# Altium integrated library Linear Technology Power Management Hot Swap Controllers.IntLib: 992 symbols (part 45 of 93)
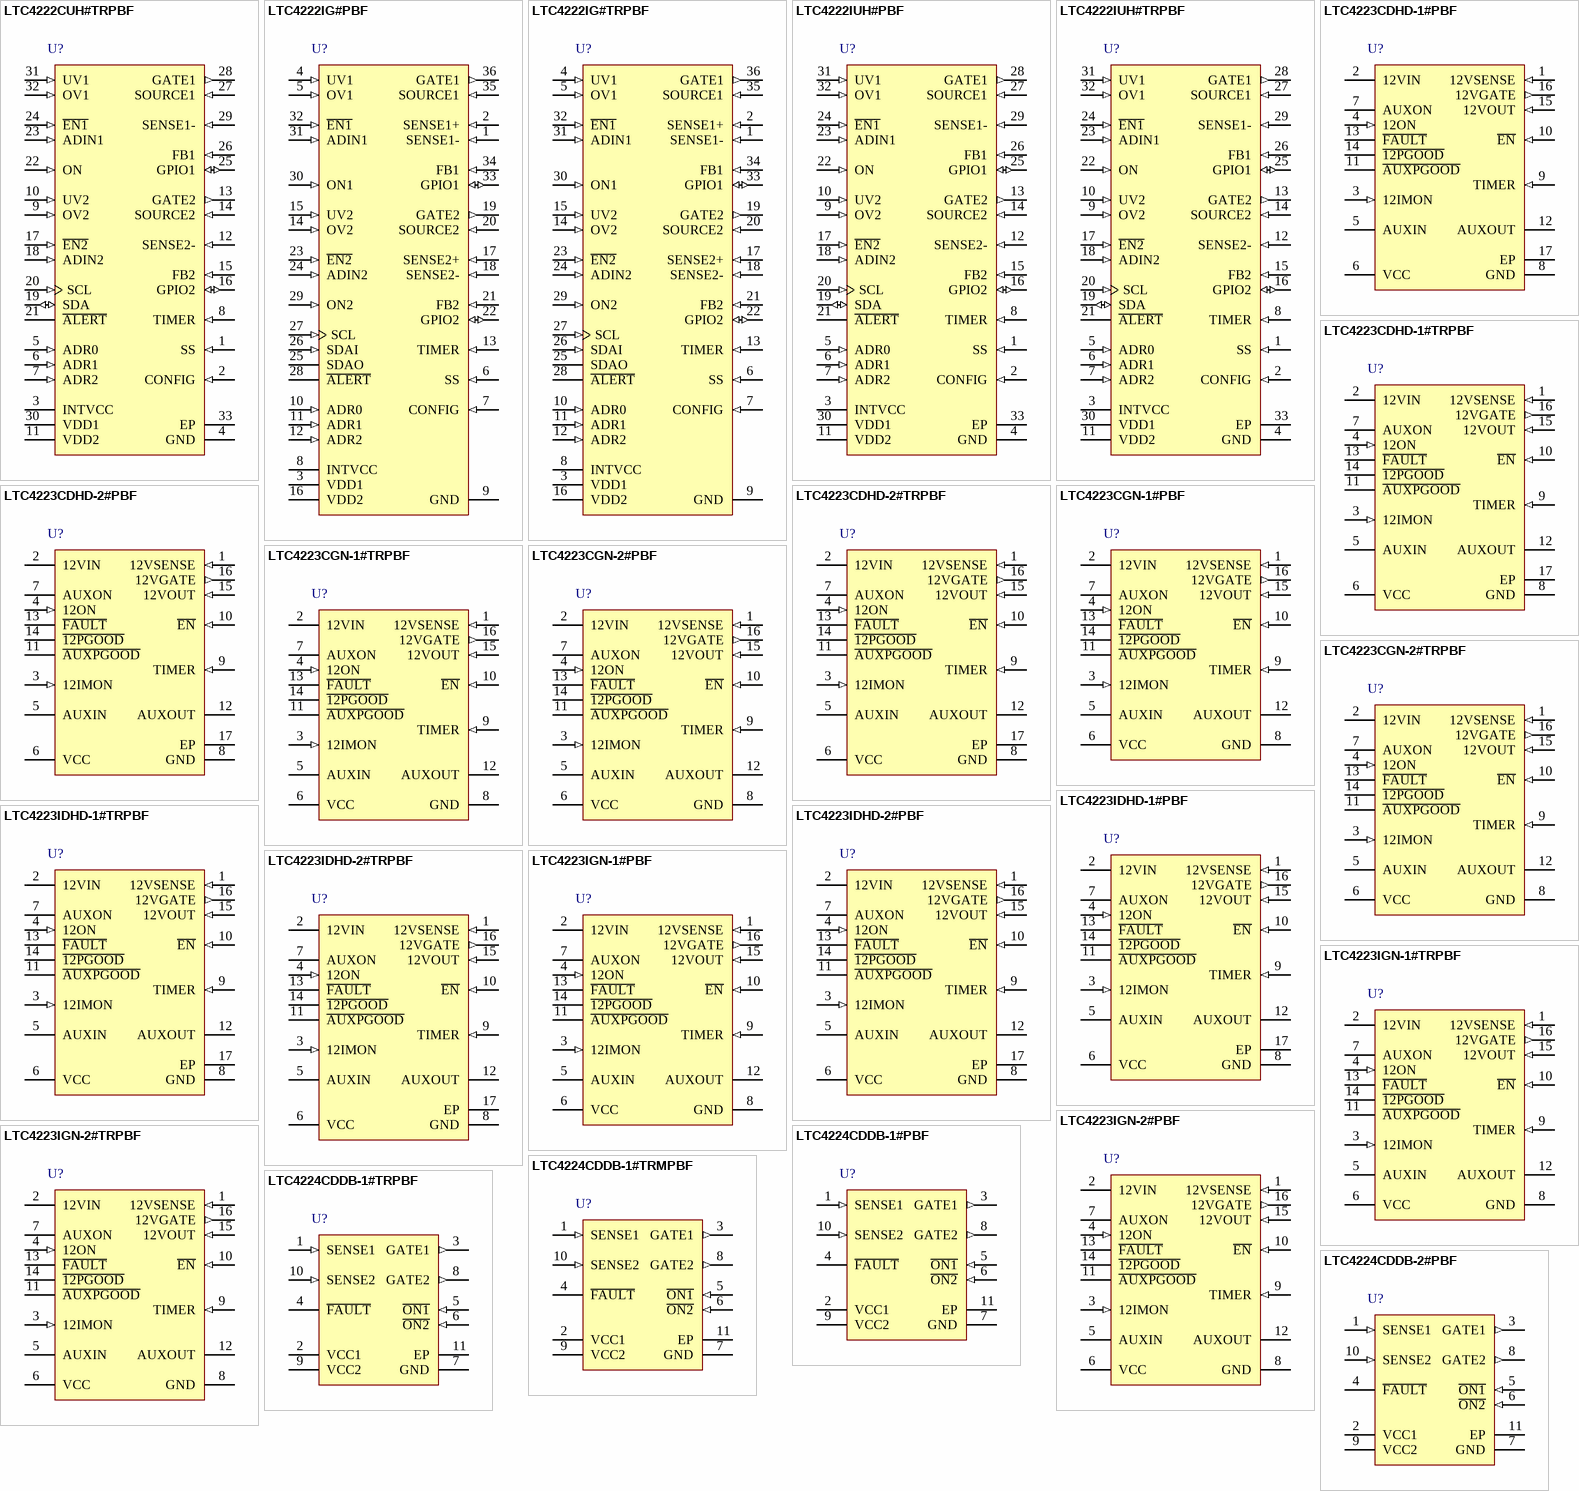
[diagram p81: symbols LTC4222CUH#TRPBF to LTC4224CDDB-2#PBF]

## LTC4222IUH#PBF
designator U?
Dual Hot Swap Controller with I2C Compatible Monitoring, 2.9 to 29 V Vin, 32-pin QFN (UH-32), -40 to 85 degC, Pb-Free; Manufacturer: Linear Technology; PartNumber: LTC4222IUH#PBF; Active Limiting: yes; ADC: 10-bit; Circuit Breaker Accuracy(%): 5; Circuit Breaker Threshold: 50 mV; Circuit Breakers(#): 2; Extended Temp: C, I; DatasheetVersion: Rev. B; PackageVersion: Rev. D, 06/2010; PackageReference: UH-32; PackageDescription: 32-Pin Plastic QFN, Body 5 x 5 mm, Pitch 0.5 mm; Supplier 1: Digi-Key; Supplier Part Number 1: LTC4222IUH#PBF-ND; Supplier 2: Newark; Supplier Part Number 2: 13P4663; Fast Comparator: yes; Fault: yes; Foldback: yes; Power Good: yes; Reset: yes; RoHS: TRUE; Vin Range: 2.9 to 29 V; Mounting Technology: Surface Mount; Code_JEDEC: MO-220; ComponentLink1Description: Manufacturer URL; ComponentLink1URL: http://www.linear.com/; ComponentLink2Description: Datasheet; ComponentLink2URL: http://cds.linear.com/docs/en/datasheet/4222fb.pdf; ComponentLink3Description: Package Specification; ComponentLink3URL: http://cds.linear.com/docs/en/packaging/QFN_32_05-08-1693.pdf
footprint LT-UH-32_N (QFN, 32-Leads, Body 5.1x5.1mm, Pitch 0.5mm, Thermal Pad 3.45X3.45mm, IPC Medium Density)
footprint LT-UH-32_L (QFN, 32-Leads, Body 5.1x5.1mm, Pitch 0.5mm, Thermal Pad 3.45X3.45mm, IPC High Density)
footprint LT-UH-32_M (QFN, 32-Leads, Body 5.1x5.1mm, Pitch 0.5mm, Thermal Pad 3.45X3.45mm, IPC Low Density)
pins: 1 SS (in) "SS: Soft-Start Input. Sets the inrush current slew rate at start-up. Connect a 68nF capacitor to provide 5mV/ms as the slew rate for the sense voltage in start-up. This corresponds to 1A/ms with a 5mohm sense resistor. Note (See Datasheet)", 2 CONFIG (in) "CONFIG: Configuration Input. Configures the part to control the two channels together or independently. When CONFIG is tied to GND both channels start up at the same time. A fault, E\N\ or ON turn-off command on either (See Datasheet)", 3 INTVCC (power) "INTVCC: Low Voltage Supply Decoupling Output. Connect a 0.1uF capacitor from this pin to ground.", 4 GND (power) "GND: Device Ground.", 5 ADR0 (in) "ADR0, ADR1, ADR2: Serial Bus Address Inputs. Tying these pins to ground, open, or INTVCC configures one of 27 possible addresses. See Table 1 in Applications Information.", 6 ADR1 (in) "ADR0, ADR1, ADR2: Serial Bus Address Inputs. Tying these pins to ground, open, or INTVCC configures one of 27 possible addresses. See Table 1 in Applications Information.", 7 ADR2 (in) "ADR0, ADR1, ADR2: Serial Bus Address Inputs. Tying these pins to ground, open, or INTVCC configures one of 27 possible addresses. See Table 1 in Applications Information.", 8 TIMER (in) "TIMER: Start-Up Timer Input. Connect a capacitor between this pin and ground to set a 12.3ms/uF duration for start-up, after which an overcurrent fault is logged if the inrush is still current limited. The duration of the (See Datasheet)", 9 OV2 (in) "OV1, OV2: Overvoltage Comparator Input. Connect this pin to an external resistive divider from VDD. If the voltage at this pin rises above 1.235V, an overvoltage fault is detected and the GATE turns off. Tie to GND if unused.", 10 UV2 (in) "UV1, UV2: Undervoltage Comparator Input. Connect this pin to an external resistive divider from VDD. If the voltage at this pin falls below 1.145V, an undervoltage fault is detected and the GATE turns off. Pulling this pin (See Datasheet)", 11 VDD2 (power) "VDD1, VDD2: Supply Voltage Input and Positive Current Sense Input. This pin has an undervoltage lockout threshold of 2.43V. In the QFN package this pin is also the positive current sense input.", 12 SENSE2- (in) "SENSE1-, SENSE2-: Negative Current Sense Input. Connect this pin to the output of the current sense resistor. The current limit circuit controls the corresponding GATE pin voltage to limit the sense voltage between the (See Datasheet)", 13 GATE2 (out) "GATE1, GATE2: Gate Drive for External N-Channel MOSFET. An internal 12uA current source charges the gate of the MOSFET. No compensation capacitor is required on the GATE pin, but a resistor and capacitor network from this (See Datasheet)", 14 SOURCE2 (in) "SOURCE1, SOURCE2: N-Channel MOSFET Source and ADC Input. Connect this pin to the source of the external N-channel MOSFET switch for gate drive return. This pin also serves as the ADC input to monitor output voltage. The pin (See Datasheet)", 15 FB2 (in) "FB1, FB2: Foldback Current Limit and Power-Good Input. A resistive divider from the output is tied to this pin. When the voltage at this pin drops below 1.235V, power is not considered good. The power bad condition may (See Datasheet)", 16 GPIO2 (io) "GPIO1, GPIO2: General Purpose Input/Output. Open-drain logic output or logic input. Defaults to an output set to pull low to indicate power is not good. Configure according to Table 3.", 17 ~{EN2} (in) "E\N\1\, E\N\2\: Enable Input. Ground this pin to indicate a board is present and enable the N-channel MOSFET to turn-on. When this pin is high, the MOSFET is not allowed to turn on. An internal 10uA current source pulls up (See Datasheet)", 18 ADIN2 (in) "ADIN: ADC Input. A voltage between 0 and 1.28V applied to this pin is measured by the on-board ADC. Tie to ground if unused.", 19 SDA (io) "SDA: (QFN Package) Serial Bus Data Input/Output Line. Formed by internally tying the SDAO and SDAI lines together. An external pull-up resistor or current source is required.", 20 SCL (in) "SCL: Serial Bus Clock Input. Data at the SDA pin is shifted in or out on rising edges of SCL. This is a high impedance pin that is generally driven by an open-collector output from a master controller. An external pull-up (See Datasheet)", 21 ~{ALERT} (oc) "A\L\E\R\T\: Fault Alert Output. Open-drain logic output that is pulled to ground when a fault occurs to alert the host controller. A fault alert is enabled by setting the corresponding bit in the A\L\E\R\T\ register as shown (See Datasheet)", 22 ON (in) "ON: (QFN Package) On Control Input. Formed by internally tying the ON1 and ON2 lines together.", 23 ADIN1 (in) "ADIN: ADC Input. A voltage between 0 and 1.28V applied to this pin is measured by the on-board ADC. Tie to ground if unused.", 24 ~{EN1} (in) "E\N\1\, E\N\2\: Enable Input. Ground this pin to indicate a board is present and enable the N-channel MOSFET to turn-on. When this pin is high, the MOSFET is not allowed to turn on. An internal 10uA current source pulls up (See Datasheet)", 25 GPIO1 (io) "GPIO1, GPIO2: General Purpose Input/Output. Open-drain logic output or logic input. Defaults to an output set to pull low to indicate power is not good. Configure according to Table 3.", 26 FB1 (in) "FB1, FB2: Foldback Current Limit and Power-Good Input. A resistive divider from the output is tied to this pin. When the voltage at this pin drops below 1.235V, power is not considered good. The power bad condition may (See Datasheet)", 27 SOURCE1 (in) "SOURCE1, SOURCE2: N-Channel MOSFET Source and ADC Input. Connect this pin to the source of the external N-channel MOSFET switch for gate drive return. This pin also serves as the ADC input to monitor output voltage. The pin (See Datasheet)", 28 GATE1 (out) "GATE1, GATE2: Gate Drive for External N-Channel MOSFET. An internal 12uA current source charges the gate of the MOSFET. No compensation capacitor is required on the GATE pin, but a resistor and capacitor network from this (See Datasheet)", 29 SENSE1- (in) "SENSE1-, SENSE2-: Negative Current Sense Input. Connect this pin to the output of the current sense resistor. The current limit circuit controls the corresponding GATE pin voltage to limit the sense voltage between the (See Datasheet)", 30 VDD1 (power) "VDD1, VDD2: Supply Voltage Input and Positive Current Sense Input. This pin has an undervoltage lockout threshold of 2.43V. In the QFN package this pin is also the positive current sense input.", 31 UV1 (in) "UV1, UV2: Undervoltage Comparator Input. Connect this pin to an external resistive divider from VDD. If the voltage at this pin falls below 1.145V, an undervoltage fault is detected and the GATE turns off. Pulling this pin (See Datasheet)", 32 OV1 (in) "OV1, OV2: Overvoltage Comparator Input. Connect this pin to an external resistive divider from VDD. If the voltage at this pin rises above 1.235V, an overvoltage fault is detected and the GATE turns off. Tie to GND if unused.", 33 EP (power) "EXPOSED PAD: (Pin 33, QFN Package) Exposed Pad. May be left open or connected to device ground."

## LTC4222IUH#TRPBF
designator U?
Dual Hot Swap Controller with I2C Compatible Monitoring, 2.9 to 29 V Vin, 32-pin QFN (UH-32), -40 to 85 degC, Pb-Free, Tape and Reel; Manufacturer: Linear Technology; PartNumber: LTC4222IUH#TRPBF; Active Limiting: yes; ADC: 10-bit; Circuit Breaker Accuracy(%): 5; Circuit Breaker Threshold: 50 mV; Circuit Breakers(#): 2; Extended Temp: C, I; DatasheetVersion: Rev. B; PackageVersion: Rev. D, 06/2010; PackageReference: UH-32; PackageDescription: 32-Pin Plastic QFN, Body 5 x 5 mm, Pitch 0.5 mm; Supplier 1: Digi-Key; Supplier Part Number 1: LTC4222IUH#TRPBF-ND; Fast Comparator: yes; Fault: yes; Foldback: yes; Packing: Tape and Reel; Power Good: yes; Reset: yes; RoHS: TRUE; Vin Range: 2.9 to 29 V; Mounting Technology: Surface Mount; Code_JEDEC: MO-220; ComponentLink1Description: Manufacturer URL; ComponentLink1URL: http://www.linear.com/; ComponentLink2Description: Datasheet; ComponentLink2URL: http://cds.linear.com/docs/en/datasheet/4222fb.pdf; ComponentLink3Description: Package Specification; ComponentLink3URL: http://cds.linear.com/docs/en/packaging/QFN_32_05-08-1693.pdf
footprint LT-UH-32_N (QFN, 32-Leads, Body 5.1x5.1mm, Pitch 0.5mm, Thermal Pad 3.45X3.45mm, IPC Medium Density)
footprint LT-UH-32_L (QFN, 32-Leads, Body 5.1x5.1mm, Pitch 0.5mm, Thermal Pad 3.45X3.45mm, IPC High Density)
footprint LT-UH-32_M (QFN, 32-Leads, Body 5.1x5.1mm, Pitch 0.5mm, Thermal Pad 3.45X3.45mm, IPC Low Density)
pins: 1 SS (in) "SS: Soft-Start Input. Sets the inrush current slew rate at start-up. Connect a 68nF capacitor to provide 5mV/ms as the slew rate for the sense voltage in start-up. This corresponds to 1A/ms with a 5mohm sense resistor. Note (See Datasheet)", 2 CONFIG (in) "CONFIG: Configuration Input. Configures the part to control the two channels together or independently. When CONFIG is tied to GND both channels start up at the same time. A fault, E\N\ or ON turn-off command on either (See Datasheet)", 3 INTVCC (power) "INTVCC: Low Voltage Supply Decoupling Output. Connect a 0.1uF capacitor from this pin to ground.", 4 GND (power) "GND: Device Ground.", 5 ADR0 (in) "ADR0, ADR1, ADR2: Serial Bus Address Inputs. Tying these pins to ground, open, or INTVCC configures one of 27 possible addresses. See Table 1 in Applications Information.", 6 ADR1 (in) "ADR0, ADR1, ADR2: Serial Bus Address Inputs. Tying these pins to ground, open, or INTVCC configures one of 27 possible addresses. See Table 1 in Applications Information.", 7 ADR2 (in) "ADR0, ADR1, ADR2: Serial Bus Address Inputs. Tying these pins to ground, open, or INTVCC configures one of 27 possible addresses. See Table 1 in Applications Information.", 8 TIMER (in) "TIMER: Start-Up Timer Input. Connect a capacitor between this pin and ground to set a 12.3ms/uF duration for start-up, after which an overcurrent fault is logged if the inrush is still current limited. The duration of the (See Datasheet)", 9 OV2 (in) "OV1, OV2: Overvoltage Comparator Input. Connect this pin to an external resistive divider from VDD. If the voltage at this pin rises above 1.235V, an overvoltage fault is detected and the GATE turns off. Tie to GND if unused.", 10 UV2 (in) "UV1, UV2: Undervoltage Comparator Input. Connect this pin to an external resistive divider from VDD. If the voltage at this pin falls below 1.145V, an undervoltage fault is detected and the GATE turns off. Pulling this pin (See Datasheet)", 11 VDD2 (power) "VDD1, VDD2: Supply Voltage Input and Positive Current Sense Input. This pin has an undervoltage lockout threshold of 2.43V. In the QFN package this pin is also the positive current sense input.", 12 SENSE2- (in) "SENSE1-, SENSE2-: Negative Current Sense Input. Connect this pin to the output of the current sense resistor. The current limit circuit controls the corresponding GATE pin voltage to limit the sense voltage between the (See Datasheet)", 13 GATE2 (out) "GATE1, GATE2: Gate Drive for External N-Channel MOSFET. An internal 12uA current source charges the gate of the MOSFET. No compensation capacitor is required on the GATE pin, but a resistor and capacitor network from this (See Datasheet)", 14 SOURCE2 (in) "SOURCE1, SOURCE2: N-Channel MOSFET Source and ADC Input. Connect this pin to the source of the external N-channel MOSFET switch for gate drive return. This pin also serves as the ADC input to monitor output voltage. The pin (See Datasheet)", 15 FB2 (in) "FB1, FB2: Foldback Current Limit and Power-Good Input. A resistive divider from the output is tied to this pin. When the voltage at this pin drops below 1.235V, power is not considered good. The power bad condition may (See Datasheet)", 16 GPIO2 (io) "GPIO1, GPIO2: General Purpose Input/Output. Open-drain logic output or logic input. Defaults to an output set to pull low to indicate power is not good. Configure according to Table 3.", 17 ~{EN2} (in) "E\N\1\, E\N\2\: Enable Input. Ground this pin to indicate a board is present and enable the N-channel MOSFET to turn-on. When this pin is high, the MOSFET is not allowed to turn on. An internal 10uA current source pulls up (See Datasheet)", 18 ADIN2 (in) "ADIN: ADC Input. A voltage between 0 and 1.28V applied to this pin is measured by the on-board ADC. Tie to ground if unused.", 19 SDA (io) "SDA: (QFN Package) Serial Bus Data Input/Output Line. Formed by internally tying the SDAO and SDAI lines together. An external pull-up resistor or current source is required.", 20 SCL (in) "SCL: Serial Bus Clock Input. Data at the SDA pin is shifted in or out on rising edges of SCL. This is a high impedance pin that is generally driven by an open-collector output from a master controller. An external pull-up (See Datasheet)", 21 ~{ALERT} (oc) "A\L\E\R\T\: Fault Alert Output. Open-drain logic output that is pulled to ground when a fault occurs to alert the host controller. A fault alert is enabled by setting the corresponding bit in the A\L\E\R\T\ register as shown (See Datasheet)", 22 ON (in) "ON: (QFN Package) On Control Input. Formed by internally tying the ON1 and ON2 lines together.", 23 ADIN1 (in) "ADIN: ADC Input. A voltage between 0 and 1.28V applied to this pin is measured by the on-board ADC. Tie to ground if unused.", 24 ~{EN1} (in) "E\N\1\, E\N\2\: Enable Input. Ground this pin to indicate a board is present and enable the N-channel MOSFET to turn-on. When this pin is high, the MOSFET is not allowed to turn on. An internal 10uA current source pulls up (See Datasheet)", 25 GPIO1 (io) "GPIO1, GPIO2: General Purpose Input/Output. Open-drain logic output or logic input. Defaults to an output set to pull low to indicate power is not good. Configure according to Table 3.", 26 FB1 (in) "FB1, FB2: Foldback Current Limit and Power-Good Input. A resistive divider from the output is tied to this pin. When the voltage at this pin drops below 1.235V, power is not considered good. The power bad condition may (See Datasheet)", 27 SOURCE1 (in) "SOURCE1, SOURCE2: N-Channel MOSFET Source and ADC Input. Connect this pin to the source of the external N-channel MOSFET switch for gate drive return. This pin also serves as the ADC input to monitor output voltage. The pin (See Datasheet)", 28 GATE1 (out) "GATE1, GATE2: Gate Drive for External N-Channel MOSFET. An internal 12uA current source charges the gate of the MOSFET. No compensation capacitor is required on the GATE pin, but a resistor and capacitor network from this (See Datasheet)", 29 SENSE1- (in) "SENSE1-, SENSE2-: Negative Current Sense Input. Connect this pin to the output of the current sense resistor. The current limit circuit controls the corresponding GATE pin voltage to limit the sense voltage between the (See Datasheet)", 30 VDD1 (power) "VDD1, VDD2: Supply Voltage Input and Positive Current Sense Input. This pin has an undervoltage lockout threshold of 2.43V. In the QFN package this pin is also the positive current sense input.", 31 UV1 (in) "UV1, UV2: Undervoltage Comparator Input. Connect this pin to an external resistive divider from VDD. If the voltage at this pin falls below 1.145V, an undervoltage fault is detected and the GATE turns off. Pulling this pin (See Datasheet)", 32 OV1 (in) "OV1, OV2: Overvoltage Comparator Input. Connect this pin to an external resistive divider from VDD. If the voltage at this pin rises above 1.235V, an overvoltage fault is detected and the GATE turns off. Tie to GND if unused.", 33 EP (power) "EXPOSED PAD: (Pin 33, QFN Package) Exposed Pad. May be left open or connected to device ground."

## LTC4223CDHD-1#PBF
designator U?
Dual Supply Hot Swap Controller for Advanced Mezzanine Card, 2.7 to 6 V Vin, 16-pin SON (DHD-16), 0 to 70 degC, Pb-Free; Manufacturer: Linear Technology; PartNumber: LTC4223CDHD-1#PBF; Active Limiting: yes; Circuit Breaker Accuracy(%): 5; Circuit Breaker Threshold: 50 mV (12), 240 mA (3.3 aux); Circuit Breakers(#): 2; Extended Temp: C, I; Foldback: no; PackageVersion: Jun-10; PackageReference: DHD-16; PackageDescription: 16-Pin Plastic DFN, Body 5 x 4 mm, Pitch 0.5 mm; Supplier 1: Digi-Key; Supplier Part Number 1: LTC4223CDHD-1#PBF-ND; Supplier 2: Farnell; Supplier Part Number 2: 1432767; Supplier 3: Newark; Supplier Part Number 3: 56M8863; Fast Comparator: yes; Fault: yes; Power Good: yes; RoHS: TRUE; Vin Range: 2.7 to 6 V; Mounting Technology: Surface Mount; Code_JEDEC: MO-229; ComponentLink1Description: Manufacturer URL; ComponentLink1URL: http://www.linear.com/; ComponentLink2Description: Datasheet; ComponentLink2URL: http://cds.linear.com/docs/en/datasheet/422312f.pdf; ComponentLink3Description: Package Specification; ComponentLink3URL: http://cds.linear.com/docs/en/packaging/DFN_16_05-08-1707.pdf
footprint LT-DHD-16_V (SON, 16-Leads, Body 5x4mm, Pitch 0.5mm, Thermal Pad 4.34x2.44mm)
pins: 1 12VSENSE (in) "12V Current Sense Input. Connect this pin to the output of the current sense resistor. The electronic circuit breaker trips if the voltage across the sense resistor exceeds 50mV for more than a fault filter delay.", 2 12VIN (power) "12V Supply Input. Undervoltage lockout disables the 12V supply until the input at 12VIN exceeds 9.7V.", 3 12IMON (in) "12V Current Sense Monitoring Output. This pin monitors the sense voltage between 12VIN and 12VSENSE. The gain ratio between this pin's voltage and the sense voltage is 33.", 4 12ON (in) "12V Supply On Control Digital Input. A rising edge turns on the external N-channel MOSFET if E\N\ is pulled low and a falling edge turns it off. A high-to-low transition on this pin will clear the 12V supply faults.", 5 AUXIN (power) "Auxiliary Supply Input. An internal 0.3 ohm switch is connected between AUXIN and AUXOUT pins. Undervoltage lockout holds the switch off until the input at AUXIN exceeds 2.5V.", 6 VCC (power) "Bias Supply Input. This pin provides power to the device's internal circuitry and operates from 2.7V to 6V. Undervoltage lockout circuit disables the device until the input at VCC exceeds 2.45V. Bypass with 330nF.", 7 AUXON (power) "Auxiliary Supply On Control Digital Input. A rising edge turns on the internal switch if E\N\ is pulled low and a falling edge turns it off. A high-to-low transition on both this pin and 12ON pin will clear the auxiliary (See Datasheet)", 8 GND (power) "Device Ground.", 9 TIMER (in) "Timer Capacitor Terminal. Connect a capacitor between this pin and ground to set a 741ms/uF duration for initial timing cycle, 123ms/uF for AUX current limit during power-up and 6ms/uF duration for 12V current limit before (See Datasheet)", 10 ~{EN} (in) "Enable Input Intended for Card Presence Detect. Ground this pin to enable the external N-channel MOSFET and internal switch to turn on. If this pin is pulled high, the switches are not allowed to turn on. An internal 100k (See Datasheet)", 11 ~{AUXPGOOD} (oc) "Auxiliary Supply Power Status Output. Open drain output that is normally pulled high by an internal 10uA current source or an external pull-up resistor to VCC. It pulls low when the AUXOUT pin voltage exceeds the power-good (See Datasheet)", 12 AUXOUT (power) "Auxiliary Supply Output. This pin is the output from the internal switch connected between AUXIN and AUXOUT pins. It signals A\U\X\P\G\O\O\D\ low when it exceeds 2.901V. A 750ohm active pull-down discharges AUXOUT to ground (See Datasheet)", 13 ~{FAULT} (oc) "Auxiliary and 12V Supply Fault Status Output. Open drain output that is normally pulled high by an internal 10uA current source or an external pull-up resistor to VCC. It pulls low when the circuit breaker is tripped due to (See Datasheet)", 14 ~{12PGOOD} (oc) "12V Supply Power Status Output. Open drain output that is normally pulled high by an internal 10uA current source or an external pull-up resistor to VCC. It pulls low when the 12VOUT pin voltage exceeds the power-good (See Datasheet)", 15 12VOUT (in) "12V Gate Drive Return and Power-Good Input. Connect this pin to the source of the external Nchannel MOSFET for gate drive return. This pin signals 1\2\P\G\O\O\D\ low when it exceeds 10.36V. When the external MOSFET is turned (See Datasheet)", 16 12VGATE (out) "Gate Drive for 12V Supply External NChannel MOSFET. An internal 10 uA current source charges the gate of the external N-channel MOSFET. An internal clamp limits the gate voltage to 6.2V above 12VOUT. A resistor and capacitor (See Datasheet)", 17 EP (power) "Exposed pad may be left open or connected to device ground."

## LTC4223CDHD-1#TRPBF
designator U?
Dual Supply Hot Swap Controller for Advanced Mezzanine Card, 2.7 to 6 V Vin, 16-pin SON (DHD-16), 0 to 70 degC, Pb-Free, Tape and Reel; Manufacturer: Linear Technology; PartNumber: LTC4223CDHD-1#TRPBF; Active Limiting: yes; Circuit Breaker Accuracy(%): 5; Circuit Breaker Threshold: 50 mV (12), 240 mA (3.3 aux); Circuit Breakers(#): 2; Extended Temp: C, I; Foldback: no; PackageVersion: Jun-10; PackageReference: DHD-16; PackageDescription: 16-Pin Plastic DFN, Body 5 x 4 mm, Pitch 0.5 mm; Supplier 1: Digi-Key; Supplier Part Number 1: LTC4223CDHD-1#TRPBF-ND; Supplier 2: Newark; Supplier Part Number 2: 56M8864; Fast Comparator: yes; Fault: yes; Packing: Tape and Reel; Power Good: yes; RoHS: TRUE; Vin Range: 2.7 to 6 V; Mounting Technology: Surface Mount; Code_JEDEC: MO-229; ComponentLink1Description: Manufacturer URL; ComponentLink1URL: http://www.linear.com/; ComponentLink2Description: Datasheet; ComponentLink2URL: http://cds.linear.com/docs/en/datasheet/422312f.pdf; ComponentLink3Description: Package Specification; ComponentLink3URL: http://cds.linear.com/docs/en/packaging/DFN_16_05-08-1707.pdf
footprint LT-DHD-16_V (SON, 16-Leads, Body 5x4mm, Pitch 0.5mm, Thermal Pad 4.34x2.44mm)
pins: 1 12VSENSE (in) "12V Current Sense Input. Connect this pin to the output of the current sense resistor. The electronic circuit breaker trips if the voltage across the sense resistor exceeds 50mV for more than a fault filter delay.", 2 12VIN (power) "12V Supply Input. Undervoltage lockout disables the 12V supply until the input at 12VIN exceeds 9.7V.", 3 12IMON (in) "12V Current Sense Monitoring Output. This pin monitors the sense voltage between 12VIN and 12VSENSE. The gain ratio between this pin's voltage and the sense voltage is 33.", 4 12ON (in) "12V Supply On Control Digital Input. A rising edge turns on the external N-channel MOSFET if E\N\ is pulled low and a falling edge turns it off. A high-to-low transition on this pin will clear the 12V supply faults.", 5 AUXIN (power) "Auxiliary Supply Input. An internal 0.3 ohm switch is connected between AUXIN and AUXOUT pins. Undervoltage lockout holds the switch off until the input at AUXIN exceeds 2.5V.", 6 VCC (power) "Bias Supply Input. This pin provides power to the device's internal circuitry and operates from 2.7V to 6V. Undervoltage lockout circuit disables the device until the input at VCC exceeds 2.45V. Bypass with 330nF.", 7 AUXON (power) "Auxiliary Supply On Control Digital Input. A rising edge turns on the internal switch if E\N\ is pulled low and a falling edge turns it off. A high-to-low transition on both this pin and 12ON pin will clear the auxiliary (See Datasheet)", 8 GND (power) "Device Ground.", 9 TIMER (in) "Timer Capacitor Terminal. Connect a capacitor between this pin and ground to set a 741ms/uF duration for initial timing cycle, 123ms/uF for AUX current limit during power-up and 6ms/uF duration for 12V current limit before (See Datasheet)", 10 ~{EN} (in) "Enable Input Intended for Card Presence Detect. Ground this pin to enable the external N-channel MOSFET and internal switch to turn on. If this pin is pulled high, the switches are not allowed to turn on. An internal 100k (See Datasheet)", 11 ~{AUXPGOOD} (oc) "Auxiliary Supply Power Status Output. Open drain output that is normally pulled high by an internal 10uA current source or an external pull-up resistor to VCC. It pulls low when the AUXOUT pin voltage exceeds the power-good (See Datasheet)", 12 AUXOUT (power) "Auxiliary Supply Output. This pin is the output from the internal switch connected between AUXIN and AUXOUT pins. It signals A\U\X\P\G\O\O\D\ low when it exceeds 2.901V. A 750ohm active pull-down discharges AUXOUT to ground (See Datasheet)", 13 ~{FAULT} (oc) "Auxiliary and 12V Supply Fault Status Output. Open drain output that is normally pulled high by an internal 10uA current source or an external pull-up resistor to VCC. It pulls low when the circuit breaker is tripped due to (See Datasheet)", 14 ~{12PGOOD} (oc) "12V Supply Power Status Output. Open drain output that is normally pulled high by an internal 10uA current source or an external pull-up resistor to VCC. It pulls low when the 12VOUT pin voltage exceeds the power-good (See Datasheet)", 15 12VOUT (in) "12V Gate Drive Return and Power-Good Input. Connect this pin to the source of the external Nchannel MOSFET for gate drive return. This pin signals 1\2\P\G\O\O\D\ low when it exceeds 10.36V. When the external MOSFET is turned (See Datasheet)", 16 12VGATE (out) "Gate Drive for 12V Supply External NChannel MOSFET. An internal 10 uA current source charges the gate of the external N-channel MOSFET. An internal clamp limits the gate voltage to 6.2V above 12VOUT. A resistor and capacitor (See Datasheet)", 17 EP (power) "Exposed pad may be left open or connected to device ground."

## LTC4223CDHD-2#PBF
designator U?
Dual Supply Hot Swap Controller for Advanced Mezzanine Card, 2.7 to 6 V Vin, 16-pin SON (DHD-16), 0 to 70 degC, Pb-Free; Manufacturer: Linear Technology; PartNumber: LTC4223CDHD-2#PBF; Active Limiting: yes; Circuit Breaker Accuracy(%): 5; Circuit Breaker Threshold: 50 mV (12), 240 mA (3.3 aux); Circuit Breakers(#): 2; Extended Temp: C, I; Foldback: no; PackageVersion: Jun-10; PackageReference: DHD-16; PackageDescription: 16-Pin Plastic DFN, Body 5 x 4 mm, Pitch 0.5 mm; Supplier 1: Digi-Key; Supplier Part Number 1: LTC4223CDHD-2#PBF-ND; Fast Comparator: yes; Fault: yes; Power Good: yes; RoHS: TRUE; Vin Range: 2.7 to 6 V; Mounting Technology: Surface Mount; Code_JEDEC: MO-229; ComponentLink1Description: Manufacturer URL; ComponentLink1URL: http://www.linear.com/; ComponentLink2Description: Datasheet; ComponentLink2URL: http://cds.linear.com/docs/en/datasheet/422312f.pdf; ComponentLink3Description: Package Specification; ComponentLink3URL: http://cds.linear.com/docs/en/packaging/DFN_16_05-08-1707.pdf
footprint LT-DHD-16_V (SON, 16-Leads, Body 5x4mm, Pitch 0.5mm, Thermal Pad 4.34x2.44mm)
pins: 1 12VSENSE (in) "12V Current Sense Input. Connect this pin to the output of the current sense resistor. The electronic circuit breaker trips if the voltage across the sense resistor exceeds 50mV for more than a fault filter delay.", 2 12VIN (power) "12V Supply Input. Undervoltage lockout disables the 12V supply until the input at 12VIN exceeds 9.7V.", 3 12IMON (in) "12V Current Sense Monitoring Output. This pin monitors the sense voltage between 12VIN and 12VSENSE. The gain ratio between this pin's voltage and the sense voltage is 33.", 4 12ON (in) "12V Supply On Control Digital Input. A rising edge turns on the external N-channel MOSFET if E\N\ is pulled low and a falling edge turns it off. A high-to-low transition on this pin will clear the 12V supply faults.", 5 AUXIN (power) "Auxiliary Supply Input. An internal 0.3 ohm switch is connected between AUXIN and AUXOUT pins. Undervoltage lockout holds the switch off until the input at AUXIN exceeds 2.5V.", 6 VCC (power) "Bias Supply Input. This pin provides power to the device's internal circuitry and operates from 2.7V to 6V. Undervoltage lockout circuit disables the device until the input at VCC exceeds 2.45V. Bypass with 330nF.", 7 AUXON (power) "Auxiliary Supply On Control Digital Input. A rising edge turns on the internal switch if E\N\ is pulled low and a falling edge turns it off. A high-to-low transition on both this pin and 12ON pin will clear the auxiliary (See Datasheet)", 8 GND (power) "Device Ground.", 9 TIMER (in) "Timer Capacitor Terminal. Connect a capacitor between this pin and ground to set a 741ms/uF duration for initial timing cycle, 123ms/uF for AUX current limit during power-up and 6ms/uF duration for 12V current limit before (See Datasheet)", 10 ~{EN} (in) "Enable Input Intended for Card Presence Detect. Ground this pin to enable the external N-channel MOSFET and internal switch to turn on. If this pin is pulled high, the switches are not allowed to turn on. An internal 100k (See Datasheet)", 11 ~{AUXPGOOD} (oc) "Auxiliary Supply Power Status Output. Open drain output that is normally pulled high by an internal 10uA current source or an external pull-up resistor to VCC. It pulls low when the AUXOUT pin voltage exceeds the power-good (See Datasheet)", 12 AUXOUT (power) "Auxiliary Supply Output. This pin is the output from the internal switch connected between AUXIN and AUXOUT pins. It signals A\U\X\P\G\O\O\D\ low when it exceeds 2.901V. A 750ohm active pull-down discharges AUXOUT to ground (See Datasheet)", 13 ~{FAULT} (oc) "Auxiliary and 12V Supply Fault Status Output. Open drain output that is normally pulled high by an internal 10uA current source or an external pull-up resistor to VCC. It pulls low when the circuit breaker is tripped due to (See Datasheet)", 14 ~{12PGOOD} (oc) "12V Supply Power Status Output. Open drain output that is normally pulled high by an internal 10uA current source or an external pull-up resistor to VCC. It pulls low when the 12VOUT pin voltage exceeds the power-good (See Datasheet)", 15 12VOUT (in) "12V Gate Drive Return and Power-Good Input. Connect this pin to the source of the external Nchannel MOSFET for gate drive return. This pin signals 1\2\P\G\O\O\D\ low when it exceeds 10.36V. When the external MOSFET is turned (See Datasheet)", 16 12VGATE (out) "Gate Drive for 12V Supply External NChannel MOSFET. An internal 10 uA current source charges the gate of the external N-channel MOSFET. An internal clamp limits the gate voltage to 6.2V above 12VOUT. A resistor and capacitor (See Datasheet)", 17 EP (power) "Exposed pad may be left open or connected to device ground."

## LTC4223CDHD-2#TRPBF
designator U?
Dual Supply Hot Swap Controller for Advanced Mezzanine Card, 2.7 to 6 V Vin, 16-pin SON (DHD-16), 0 to 70 degC, Pb-Free, Tape and Reel; Manufacturer: Linear Technology; PartNumber: LTC4223CDHD-2#TRPBF; Active Limiting: yes; Circuit Breaker Accuracy(%): 5; Circuit Breaker Threshold: 50 mV (12), 240 mA (3.3 aux); Circuit Breakers(#): 2; Extended Temp: C, I; Foldback: no; PackageVersion: Jun-10; PackageReference: DHD-16; PackageDescription: 16-Pin Plastic DFN, Body 5 x 4 mm, Pitch 0.5 mm; Supplier 1: Digi-Key; Supplier Part Number 1: LTC4223CDHD-2#TRPBF-ND; Fast Comparator: yes; Fault: yes; Packing: Tape and Reel; Power Good: yes; RoHS: TRUE; Vin Range: 2.7 to 6 V; Mounting Technology: Surface Mount; Code_JEDEC: MO-229; ComponentLink1Description: Manufacturer URL; ComponentLink1URL: http://www.linear.com/; ComponentLink2Description: Datasheet; ComponentLink2URL: http://cds.linear.com/docs/en/datasheet/422312f.pdf; ComponentLink3Description: Package Specification; ComponentLink3URL: http://cds.linear.com/docs/en/packaging/DFN_16_05-08-1707.pdf
footprint LT-DHD-16_V (SON, 16-Leads, Body 5x4mm, Pitch 0.5mm, Thermal Pad 4.34x2.44mm)
pins: 1 12VSENSE (in) "12V Current Sense Input. Connect this pin to the output of the current sense resistor. The electronic circuit breaker trips if the voltage across the sense resistor exceeds 50mV for more than a fault filter delay.", 2 12VIN (power) "12V Supply Input. Undervoltage lockout disables the 12V supply until the input at 12VIN exceeds 9.7V.", 3 12IMON (in) "12V Current Sense Monitoring Output. This pin monitors the sense voltage between 12VIN and 12VSENSE. The gain ratio between this pin's voltage and the sense voltage is 33.", 4 12ON (in) "12V Supply On Control Digital Input. A rising edge turns on the external N-channel MOSFET if E\N\ is pulled low and a falling edge turns it off. A high-to-low transition on this pin will clear the 12V supply faults.", 5 AUXIN (power) "Auxiliary Supply Input. An internal 0.3 ohm switch is connected between AUXIN and AUXOUT pins. Undervoltage lockout holds the switch off until the input at AUXIN exceeds 2.5V.", 6 VCC (power) "Bias Supply Input. This pin provides power to the device's internal circuitry and operates from 2.7V to 6V. Undervoltage lockout circuit disables the device until the input at VCC exceeds 2.45V. Bypass with 330nF.", 7 AUXON (power) "Auxiliary Supply On Control Digital Input. A rising edge turns on the internal switch if E\N\ is pulled low and a falling edge turns it off. A high-to-low transition on both this pin and 12ON pin will clear the auxiliary (See Datasheet)", 8 GND (power) "Device Ground.", 9 TIMER (in) "Timer Capacitor Terminal. Connect a capacitor between this pin and ground to set a 741ms/uF duration for initial timing cycle, 123ms/uF for AUX current limit during power-up and 6ms/uF duration for 12V current limit before (See Datasheet)", 10 ~{EN} (in) "Enable Input Intended for Card Presence Detect. Ground this pin to enable the external N-channel MOSFET and internal switch to turn on. If this pin is pulled high, the switches are not allowed to turn on. An internal 100k (See Datasheet)", 11 ~{AUXPGOOD} (oc) "Auxiliary Supply Power Status Output. Open drain output that is normally pulled high by an internal 10uA current source or an external pull-up resistor to VCC. It pulls low when the AUXOUT pin voltage exceeds the power-good (See Datasheet)", 12 AUXOUT (power) "Auxiliary Supply Output. This pin is the output from the internal switch connected between AUXIN and AUXOUT pins. It signals A\U\X\P\G\O\O\D\ low when it exceeds 2.901V. A 750ohm active pull-down discharges AUXOUT to ground (See Datasheet)", 13 ~{FAULT} (oc) "Auxiliary and 12V Supply Fault Status Output. Open drain output that is normally pulled high by an internal 10uA current source or an external pull-up resistor to VCC. It pulls low when the circuit breaker is tripped due to (See Datasheet)", 14 ~{12PGOOD} (oc) "12V Supply Power Status Output. Open drain output that is normally pulled high by an internal 10uA current source or an external pull-up resistor to VCC. It pulls low when the 12VOUT pin voltage exceeds the power-good (See Datasheet)", 15 12VOUT (in) "12V Gate Drive Return and Power-Good Input. Connect this pin to the source of the external Nchannel MOSFET for gate drive return. This pin signals 1\2\P\G\O\O\D\ low when it exceeds 10.36V. When the external MOSFET is turned (See Datasheet)", 16 12VGATE (out) "Gate Drive for 12V Supply External NChannel MOSFET. An internal 10 uA current source charges the gate of the external N-channel MOSFET. An internal clamp limits the gate voltage to 6.2V above 12VOUT. A resistor and capacitor (See Datasheet)", 17 EP (power) "Exposed pad may be left open or connected to device ground."

## LTC4223CGN-1#PBF
designator U?
Dual Supply Hot Swap Controller for Advanced Mezzanine Card, 2.7 to 6 V Vin, 16-pin SOP (GN-16), 0 to 70 degC, Pb-Free; Manufacturer: Linear Technology; PartNumber: LTC4223CGN-1#PBF; Active Limiting: yes; Circuit Breaker Accuracy(%): 5; Circuit Breaker Threshold: 50 mV (12), 240 mA (3.3 aux); Circuit Breakers(#): 2; Extended Temp: C, I; Foldback: no; PackageVersion: Rev. B, 03/2012; PackageReference: GN-16; PackageDescription: 16-Pin Plastic SSOP, Body 4.9 x 3.9 mm, Pitch 0.635 mm; Supplier 1: Digi-Key; Supplier Part Number 1: LTC4223CGN-1#PBF-ND; Supplier 2: Farnell; Supplier Part Number 2: 1432768; Fast Comparator: yes; Fault: yes; Power Good: yes; RoHS: TRUE; Vin Range: 2.7 to 6 V; Mounting Technology: Surface Mount; ComponentLink1Description: Manufacturer URL; ComponentLink1URL: http://www.linear.com/; ComponentLink2Description: Datasheet; ComponentLink2URL: http://cds.linear.com/docs/en/datasheet/422312f.pdf; ComponentLink3Description: Package Specification; ComponentLink3URL: http://cds.linear.com/docs/en/packaging/05081641_B_GN16.pdf
footprint LT-GN-16_N (SOP, 16-Leads, Body 5x4mm, Pitch 0.635mm, IPC Medium Density)
footprint LT-GN-16_L (SOP, 16-Leads, Body 5x4mm, Pitch 0.635mm, IPC High Density)
footprint LT-GN-16_M (SOP, 16-Leads, Body 5x4mm, Pitch 0.635mm, IPC Low Density)
pins: 1 12VSENSE (in) "12V Current Sense Input. Connect this pin to the output of the current sense resistor. The electronic circuit breaker trips if the voltage across the sense resistor exceeds 50mV for more than a fault filter delay.", 2 12VIN (power) "12V Supply Input. Undervoltage lockout disables the 12V supply until the input at 12VIN exceeds 9.7V.", 3 12IMON (in) "12V Current Sense Monitoring Output. This pin monitors the sense voltage between 12VIN and 12VSENSE. The gain ratio between this pin’s voltage and the sense voltage is 33.", 4 12ON (in) "12V Supply On Control Digital Input. A rising edge turns on the external N-channel MOSFET if E\N\ is pulled low and a falling edge turns it off. A high-to-low transition on this pin will clear the 12V supply faults.", 5 AUXIN (power) "Auxiliary Supply Input. An internal 0.3 ohm switch is connected between AUXIN and AUXOUT pins. Undervoltage lockout holds the switch off until the input at AUXIN exceeds 2.5V.", 6 VCC (power) "Bias Supply Input. This pin provides power to the device’s internal circuitry and operates from 2.7V to 6V. Undervoltage lockout circuit disables the device until the input at VCC exceeds 2.45V. Bypass with 330nF.", 7 AUXON (power) "Auxiliary Supply On Control Digital Input. A rising edge turns on the internal switch if E\N\ is pulled low and a falling edge turns it off. A high-to-low transition on both this pin and 12ON pin will clear the auxiliary (See Datasheet)", 8 GND (power) "Device Ground.", 9 TIMER (in) "Timer Capacitor Terminal. Connect a capacitor between this pin and ground to set a 741ms/uF duration for initial timing cycle, 123ms/uF for AUX current limit during power-up and 6ms/uF duration for 12V current limit before (See Datasheet)", 10 ~{EN} (in) "Enable Input Intended for Card Presence Detect. Ground this pin to enable the external N-channel MOSFET and internal switch to turn on. If this pin is pulled high, the switches are not allowed to turn on. An internal 100k (See Datasheet)", 11 ~{AUXPGOOD} (oc) "Auxiliary Supply Power Status Output. Open drain output that is normally pulled high by an internal 10uA current source or an external pull-up resistor to VCC. It pulls low when the AUXOUT pin voltage exceeds the power-good (See Datasheet)", 12 AUXOUT (power) "Auxiliary Supply Output. This pin is the output from the internal switch connected between AUXIN and AUXOUT pins. It signals A\U\X\P\G\O\O\D\ low when it exceeds 2.901V. A 750ohm active pull-down discharges AUXOUT to ground (See Datasheet)", 13 ~{FAULT} (oc) "Auxiliary and 12V Supply Fault Status Output. Open drain output that is normally pulled high by an internal 10uA current source or an external pull-up resistor to VCC. It pulls low when the circuit breaker is tripped due to (See Datasheet)", 14 ~{12PGOOD} (oc) "12V Supply Power Status Output. Open drain output that is normally pulled high by an internal 10uA current source or an external pull-up resistor to VCC. It pulls low when the 12VOUT pin voltage exceeds the power-good (See Datasheet)", 15 12VOUT (in) "12V Gate Drive Return and Power-Good Input. Connect this pin to the source of the external Nchannel MOSFET for gate drive return. This pin signals 1\2\P\G\O\O\D\ low when it exceeds 10.36V. When the external MOSFET is turned (See Datasheet)", 16 12VGATE (out) "Gate Drive for 12V Supply External NChannel MOSFET. An internal 10 uA current source charges the gate of the external N-channel MOSFET. An internal clamp limits the gate voltage to 6.2V above 12VOUT. A resistor and capacitor (See Datasheet)"

## LTC4223CGN-1#TRPBF
designator U?
Dual Supply Hot Swap Controller for Advanced Mezzanine Card, 2.7 to 6 V Vin, 16-pin SOP (GN-16), 0 to 70 degC, Pb-Free, Tape and Reel; Manufacturer: Linear Technology; PartNumber: LTC4223CGN-1#TRPBF; Active Limiting: yes; Circuit Breaker Accuracy(%): 5; Circuit Breaker Threshold: 50 mV (12), 240 mA (3.3 aux); Circuit Breakers(#): 2; Extended Temp: C, I; Foldback: no; PackageVersion: Rev. B, 03/2012; PackageReference: GN-16; PackageDescription: 16-Pin Plastic SSOP, Body 4.9 x 3.9 mm, Pitch 0.635 mm; Supplier 1: Digi-Key; Supplier Part Number 1: LTC4223CGN-1#TRPBF-ND; Fast Comparator: yes; Fault: yes; Packing: Tape and Reel; Power Good: yes; RoHS: TRUE; Vin Range: 2.7 to 6 V; Mounting Technology: Surface Mount; ComponentLink1Description: Manufacturer URL; ComponentLink1URL: http://www.linear.com/; ComponentLink2Description: Datasheet; ComponentLink2URL: http://cds.linear.com/docs/en/datasheet/422312f.pdf; ComponentLink3Description: Package Specification; ComponentLink3URL: http://cds.linear.com/docs/en/packaging/05081641_B_GN16.pdf
footprint LT-GN-16_N (SOP, 16-Leads, Body 5x4mm, Pitch 0.635mm, IPC Medium Density)
footprint LT-GN-16_L (SOP, 16-Leads, Body 5x4mm, Pitch 0.635mm, IPC High Density)
footprint LT-GN-16_M (SOP, 16-Leads, Body 5x4mm, Pitch 0.635mm, IPC Low Density)
pins: 1 12VSENSE (in) "12V Current Sense Input. Connect this pin to the output of the current sense resistor. The electronic circuit breaker trips if the voltage across the sense resistor exceeds 50mV for more than a fault filter delay.", 2 12VIN (power) "12V Supply Input. Undervoltage lockout disables the 12V supply until the input at 12VIN exceeds 9.7V.", 3 12IMON (in) "12V Current Sense Monitoring Output. This pin monitors the sense voltage between 12VIN and 12VSENSE. The gain ratio between this pin’s voltage and the sense voltage is 33.", 4 12ON (in) "12V Supply On Control Digital Input. A rising edge turns on the external N-channel MOSFET if E\N\ is pulled low and a falling edge turns it off. A high-to-low transition on this pin will clear the 12V supply faults.", 5 AUXIN (power) "Auxiliary Supply Input. An internal 0.3 ohm switch is connected between AUXIN and AUXOUT pins. Undervoltage lockout holds the switch off until the input at AUXIN exceeds 2.5V.", 6 VCC (power) "Bias Supply Input. This pin provides power to the device’s internal circuitry and operates from 2.7V to 6V. Undervoltage lockout circuit disables the device until the input at VCC exceeds 2.45V. Bypass with 330nF.", 7 AUXON (power) "Auxiliary Supply On Control Digital Input. A rising edge turns on the internal switch if E\N\ is pulled low and a falling edge turns it off. A high-to-low transition on both this pin and 12ON pin will clear the auxiliary (See Datasheet)", 8 GND (power) "Device Ground.", 9 TIMER (in) "Timer Capacitor Terminal. Connect a capacitor between this pin and ground to set a 741ms/uF duration for initial timing cycle, 123ms/uF for AUX current limit during power-up and 6ms/uF duration for 12V current limit before (See Datasheet)", 10 ~{EN} (in) "Enable Input Intended for Card Presence Detect. Ground this pin to enable the external N-channel MOSFET and internal switch to turn on. If this pin is pulled high, the switches are not allowed to turn on. An internal 100k (See Datasheet)", 11 ~{AUXPGOOD} (oc) "Auxiliary Supply Power Status Output. Open drain output that is normally pulled high by an internal 10uA current source or an external pull-up resistor to VCC. It pulls low when the AUXOUT pin voltage exceeds the power-good (See Datasheet)", 12 AUXOUT (power) "Auxiliary Supply Output. This pin is the output from the internal switch connected between AUXIN and AUXOUT pins. It signals A\U\X\P\G\O\O\D\ low when it exceeds 2.901V. A 750ohm active pull-down discharges AUXOUT to ground (See Datasheet)", 13 ~{FAULT} (oc) "Auxiliary and 12V Supply Fault Status Output. Open drain output that is normally pulled high by an internal 10uA current source or an external pull-up resistor to VCC. It pulls low when the circuit breaker is tripped due to (See Datasheet)", 14 ~{12PGOOD} (oc) "12V Supply Power Status Output. Open drain output that is normally pulled high by an internal 10uA current source or an external pull-up resistor to VCC. It pulls low when the 12VOUT pin voltage exceeds the power-good (See Datasheet)", 15 12VOUT (in) "12V Gate Drive Return and Power-Good Input. Connect this pin to the source of the external Nchannel MOSFET for gate drive return. This pin signals 1\2\P\G\O\O\D\ low when it exceeds 10.36V. When the external MOSFET is turned (See Datasheet)", 16 12VGATE (out) "Gate Drive for 12V Supply External NChannel MOSFET. An internal 10 uA current source charges the gate of the external N-channel MOSFET. An internal clamp limits the gate voltage to 6.2V above 12VOUT. A resistor and capacitor (See Datasheet)"